# Altium schematic symbol library Capacitors Aluminium.SchLib: 6 symbols
Pins are listed as number, name and electrical type; pins without a type are passive.

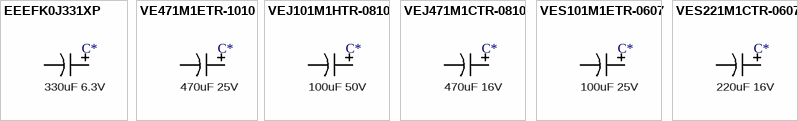
[diagram p0: symbols EEEFK0J331XP to VES221M1CTR-0607]

## EEEFK0J331XP
designator C*  value 330uF 6.3V  (hidden comment: *)
330uF ±20% 6.3V SMD,6.3x7.7mm Aluminum Electrolytic Capacitors - SMD RoHS; ComponentLink1Description: LCSC - PANASONIC EEEFK0J331XP; ComponentLink1URL: https://lcsc.com/product-detail/Aluminum-Electrolytic-Capacitors-SMD_PANASONIC-EEEFK0J331XP_C128454.html
footprint SMD,6.3x7.7mm
pins: 1, 2

## VE471M1ETR-1010
designator C*  value 470uF 25V  (hidden comment: *)
470uF ±20% 25V SMD,10x10mm Aluminum Electrolytic Capacitors - SMD RoHS; ComponentLink1Description: LCSC - Lelon VE471M1ETR-1010; ComponentLink1URL: https://lcsc.com/product-detail/Others_Lelon-VE-471M1E1010-TR0_C249931.html/?href=jlc-SMT; LCSC Part #: C249931; JLCPCB Part Type: Extended
footprint CAPAE1030X1050N
pins: 1, 2

## VEJ101M1HTR-0810
designator C*  value 100uF 50V  (hidden comment: *)
100uF ±20% 50V SMD,8x10mm Aluminum Electrolytic Capacitors - SMD RoHS; ComponentLink1Description: LCSC - Lelon VEJ101M1HTR-0810; ComponentLink1URL: https://lcsc.com/product-detail/Aluminum-Electrolytic-Capacitors-SMD_Lelon-VEJ101M1HTR-0810_C176665.html/?href=jlc-SMT; LCSC Part #: C176665; JLCPCB Part Type: Extended
footprint CAP ALSMD POLY 8.3MM H10.0MM (Aluminum Electrolytic Capacitor, Body 8.30x8.30x10.0mm)
pins: 1, 2

## VEJ471M1CTR-0810
designator C*  value 470uF 16V  (hidden comment: *)
470uF ±20% 16V SMD,8x10mm Aluminum Electrolytic Capacitors - SMD RoHS; ComponentLink1Description: LCSC - Lelon VEJ471M1CTR-0810; ComponentLink1URL: https://lcsc.com/product-detail/Aluminum-Electrolytic-Capacitors-SMD_Lelon-VEJ471M1CTR-0810_C176671.html/?href=jlc-SMT; LCSC Part #: C176671; JLCPCB Part Type: Extended
footprint CAP ALSMD POLY 8.3MM H10.0MM (Aluminum Electrolytic Capacitor, Body 8.30x8.30x10.0mm)
pins: 1, 2

## VES101M1ETR-0607
designator C*  value 100uF 25V  (hidden comment: *)
100uF ±20% 35V SMD,6.3x7.7mm Aluminum Electrolytic Capacitors - SMD RoHS; ComponentLink1Description: LCSC - Lelon VES101M1ETR-0607; ComponentLink1URL: https://lcsc.com/product-detail/Aluminum-Electrolytic-Capacitors-SMD_Lelon-VES101M1ETR-0607_C176675.html; LCSC Part #: C176675; JLCPCB Part Type: Extended
footprint SMD,6.3x7.7mm
pins: 1, 2

## VES221M1CTR-0607
designator C*  value 220uF 16V  (hidden comment: *)
220uF ±20% 16V SMD,6.3x7.7mm RoHS; ComponentLink1Description: LCSC - VES221M1CTR-0607; ComponentLink1URL: https://lcsc.com/product-detail/Aluminum-Electrolytic-Capacitors-SMD_Lelon-VES221M1CTR-0607_C127327.html; LCSC Part #: C127327; JLCPCB Part Type: Extended
footprint SMD,6.3x7.7mm
pins: 1, 2